# EAGLE library part MFRC522 (library LARS_409_MC3)
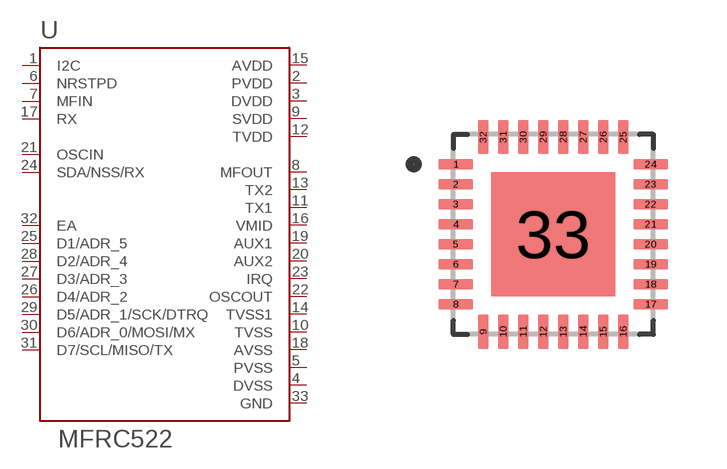
[diagram p21: symbol with the pads of MFRC522; footprint MFRC522]

Designator prefix U

## MFRC522  [MFRC522]
1  I2C  in
2  PVDD  pwr
3  DVDD  pwr
4  DVSS  pwr
5  PVSS  pwr
6  NRSTPD  in
7  MFIN  in
8  MFOUT  out
9  SVDD  pwr
10  TVSS  pwr
11  TX1  out
12  TVDD  pwr
13  TX2  out
14  TVSS1  pwr
15  AVDD  pwr
16  VMID  pwr
17  RX  in
18  AVSS  pwr
19  AUX1  out
20  AUX2  out
21  OSCIN  in
22  OSCOUT  out
23  IRQ  out
24  SDA/NSS/RX
25  D1/ADR_5
26  D4/ADR_2
27  D3/ADR_3
28  D2/ADR_4
29  D5/ADR_1/SCK/DTRQ
30  D6/ADR_0/MOSI/MX
31  D7/SCL/MISO/TX
32  EA  in
33  GND  pwr

## Footprint MFRC522 (pad centres in mm)
smd 0.86 x 0.26: 1 -2.425,1.7; 2 -2.425,1.2; 3 -2.425,0.7; 4 -2.425,0.2; 5 -2.425,-0.3; 6 -2.425,-0.8; 7 -2.425,-1.3; 8 -2.425,-1.8; 17 2.445,-1.8; 18 2.445,-1.3; 19 2.445,-0.8; 20 2.445,-0.3; 21 2.445,0.2; 22 2.445,0.7; 23 2.445,1.2; 24 2.445,1.7
smd 0.26 x 0.86: 9 -1.74,-2.485; 10 -1.24,-2.485; 11 -0.74,-2.485; 12 -0.24,-2.485; 13 0.26,-2.485; 14 0.76,-2.485; 15 1.26,-2.485; 16 1.76,-2.485; 25 1.76,2.385; 26 1.26,2.385; 27 0.76,2.385; 28 0.26,2.385; 29 -0.24,2.385; 30 -0.74,2.385; 31 -1.24,2.385; 32 -1.74,2.385
smd 3.1 x 3.1: 33 0.01,-0.05